# Altium footprint library SchedaLed.PcbLib: 10 footprints
Each footprint in its own frame and in the unit in brackets; x right, y up, seen from the top. Pads: shape width x height; smd on the part's side, far side on the other; paste and mask are expansions set on the pad; w line width, h text height; cw(c..) or ccw(c..) is an arc to the next point about the centre after c.
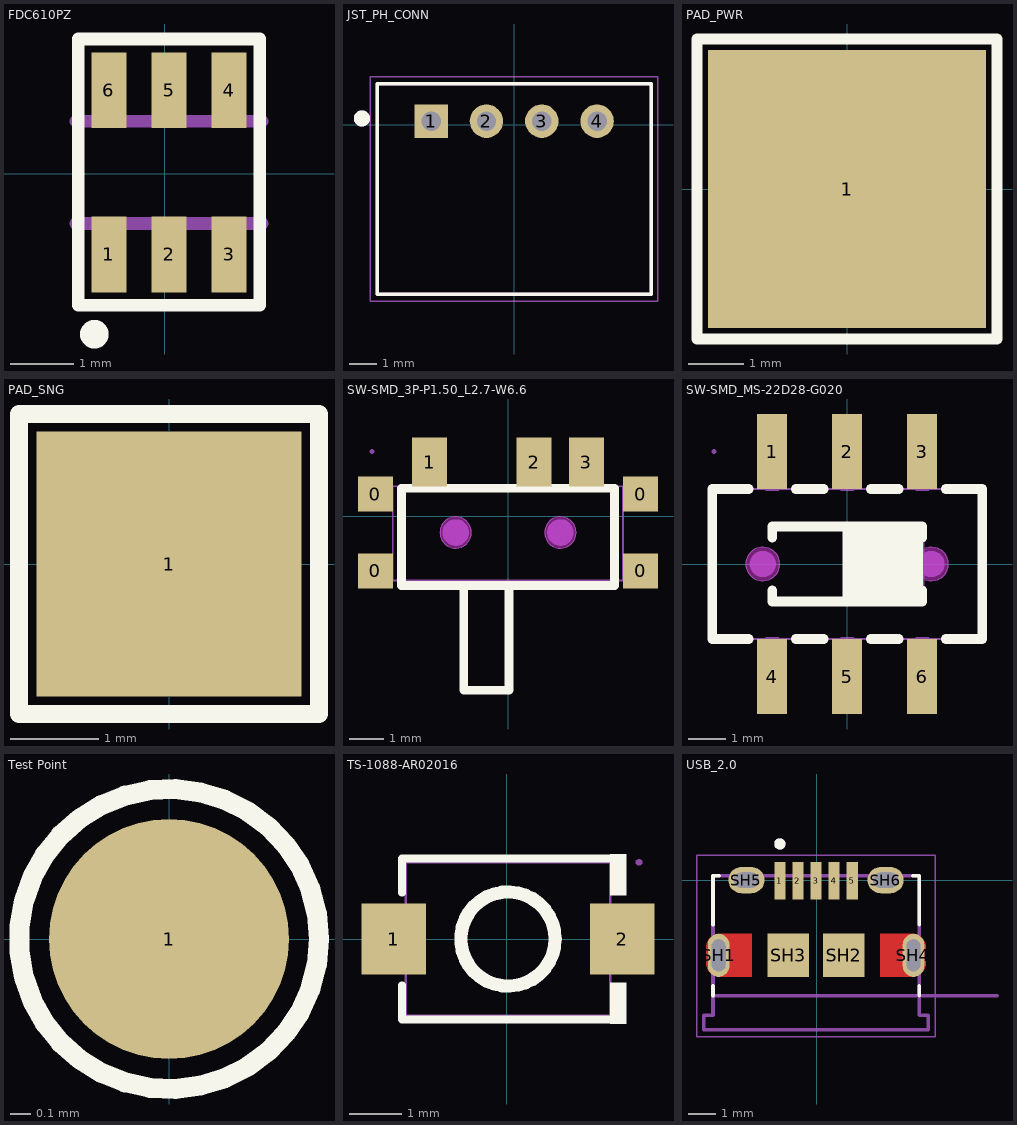
[diagram p0: the footprints below, top view; thin cyan lines are the x and y axes]

## FDC610PZ [mm]
pads (6):
  rect 0.55x1.2 smd: 1(-0.886,-1.278) 2(0.064,-1.278) 3(1.014,-1.278) 4(1.014,1.322) 5(0.064,1.322) 6(-0.886,1.322)
Top Overlay:
  circle w0.3: c-1.118,-2.54 r0.076
  lines w0.2: -1.372,-2.083 1.5,-2.083 1.5,2.134 -1.372,2.134 -1.372,-2.083
Mechanical 13:
  region: -0.636,-1.478 -1.136,-1.478 -1.136,-0.828 -0.636,-0.828
  region: 0.314,-1.478 -0.186,-1.478 -0.186,-0.828 0.314,-0.828
  region: 1.264,-1.481 0.765,-1.481 0.765,-0.828 1.264,-0.828
  region: 1.264,0.873 0.765,0.873 0.765,1.522 1.264,1.522
  region: 0.314,0.874 -0.186,0.874 -0.186,1.522 0.314,1.522
  region: -0.636,0.872 -1.137,0.872 -1.137,1.522 -0.636,1.522
  lines w0.203: -1.408,-0.788 1.536,-0.788 ; -1.408,0.832 1.536,0.832
3D body "step_temp.STEP": height 1.1, standoff 0, extent -1.411,-1.353 1.539,1.397

## JST_PH_CONN [mm]
pads (4):
  rect 1.208x1.208 hole 0.7: 1(-3,0.127)
  round 1.208 hole 0.7: 2(-1,0.127) 3(1,0.127) 4(3,0.127)
Top Overlay:
  circle w0.3: c-5.5,0.227 r0.141
  lines w0.127: -4.95,-6.123 4.95,-6.123 4.95,1.477 -4.95,1.477 -4.95,-6.123
Mechanical 13:
  circle w0.3: c-5.5,0.227 r0.141
  lines w0.127: -4.95,-6.123 -4.95,1.477 4.95,1.477 4.95,-6.123 -4.95,-6.123
Mechanical 15:
  lines w0.05: -5.2,-6.373 -5.2,1.727 5.2,1.727 5.2,-6.373 -5.2,-6.373
3D body "S4B-PH-K-S(LF)(SN)--3DModel-STEP-56544.STEP": height 4.8, standoff -3.38, extent -4.95,-6.2 4.95,1.4

## PAD_PWR [mm]
pads (1):
  rect 5x5 smd: 1(0,0)
Top Overlay:
  lines w0.2: -2.7,-2.7 2.7,-2.7 2.7,2.7 -2.7,2.7 -2.7,-2.7
3D body: height 0.03, standoff 0.03, extent -2.5,-2.5 2.5,2.5

## PAD_SNG [mm]
pads (1):
  rect 3x3 smd: 1(0,0)
Top Overlay:
  lines w0.2: -1.7,-1.7 1.7,-1.7 1.7,1.7 -1.7,1.7 -1.7,-1.7
3D body: height 0.03, standoff 0.03, extent -1.5,-1.5 1.5,1.5

## PCBComponent_1 [mm]

## SW-SMD_3P-P1.50_L2.7-W6.6 [mm]
pads (7):
  rect 1x1 smd paste+0 mask+0.051: 0(-3.8,-1.559) 0(-3.8,0.641) 0(3.8,-1.559) 0(3.8,0.641)
  rect 1x1.4 smd paste+0 mask+0.051: 1(-2.25,1.559) 2(0.75,1.559) 3(2.25,1.559)
Top Overlay:
  lines w0.254: -3.048,-1.983 3.048,-1.983 3.048,0.811 -3.048,0.811 -3.048,-1.983 ; -1.27,-4.983 -1.27,-1.983 0.03,-1.983 0.03,-4.983 -1.27,-4.983
Keep-Out Layer:
  board cut-out: 1.95,-0.459 1.949,-0.37 1.88,-0.206 1.753,-0.081 1.589,-0.014 1.411,-0.014 1.247,-0.081 1.12,-0.206 1.051,-0.37 1.05,-0.459 1.051,-0.548 1.12,-0.712 1.247,-0.837 1.411,-0.904 1.589,-0.904 1.753,-0.837 1.88,-0.712 1.949,-0.548
  board cut-out: -1.05,-0.459 -1.051,-0.37 -1.12,-0.206 -1.247,-0.081 -1.411,-0.014 -1.589,-0.014 -1.753,-0.081 -1.88,-0.206 -1.949,-0.37 -1.95,-0.459 -1.949,-0.548 -1.88,-0.712 -1.753,-0.837 -1.589,-0.904 -1.411,-0.904 -1.247,-0.837 -1.12,-0.712 -1.051,-0.548
Mechanical 1:
  circle w0.005: c1.5,-0.459 r0.45
  circle w0.005: c-1.5,-0.459 r0.45
Mechanical 6:
  circle w0.38: c-1.5,-0.459 r0.19
  circle w0.38: c1.5,-0.459 r0.19
Mechanical 15:
  region: 3.297,-1.359 3.897,-1.359 3.897,-1.759 3.297,-1.759
  region: 3.297,0.841 3.897,0.841 3.897,0.441 3.297,0.441
  region: -3.897,-1.359 -3.297,-1.359 -3.297,-1.759 -3.897,-1.759
  region: -3.897,0.841 -3.297,0.841 -3.297,0.441 -3.897,0.441
  region: 2.05,1.863 2.45,1.863 2.45,0.863 2.05,0.863
  region: 0.55,1.863 0.95,1.863 0.95,0.863 0.55,0.863
  region: -2.45,1.863 -2.05,1.863 -2.05,0.863 -2.45,0.863
  region: -3.837,1.863 -3.837,1.888 -3.872,1.923 -3.922,1.924 -3.957,1.888 -3.957,1.864 -3.957,1.839 -3.922,1.804 -3.872,1.803 -3.837,1.839
  lines w0.051: -3.302,-1.834 3.298,-1.834 3.298,0.866 -3.302,0.866 -3.302,-1.834

## SW-SMD_MS-22D28-G020 [mm]
pads (6):
  rect 0.8x2 smd paste+0 mask+0.051: 1(-2,3) 2(0,3) 3(2,3) 4(-2,-3) 5(0,-3) 6(2,-3)
Top Overlay:
  region: 0.019,0.991 2.019,0.991 2.019,-1.009 0.019,-1.009
  lines w0.254: -2.631,-2 -3.6,-2 -3.6,2 -2.631,2 ; -2,-0.7 -2,-1 2,-1 2,-0.7 ; -2,0.7 -2,1 2,1 2,0.7 ; -1.369,-2 -0.631,-2 ; -1.369,2 -0.631,2 ; 0,-1 0,1 ; 0.631,-2 1.369,-2 ; 0.631,2 1.369,2 ; 2.631,-2 3.6,-2 3.6,2 2.631,2
Keep-Out Layer:
  board cut-out: -1.8,0 -1.8,0.09 -1.868,0.255 -1.995,0.382 -2.16,0.45 -2.34,0.45 -2.505,0.382 -2.632,0.255 -2.7,0.09 -2.7,0 -2.7,-0.09 -2.632,-0.255 -2.505,-0.382 -2.34,-0.45 -2.16,-0.45 -1.995,-0.382 -1.868,-0.255 -1.8,-0.09 -1.8,0
  board cut-out: 2.7,0 2.7,0.09 2.631,0.255 2.505,0.382 2.339,0.45 2.16,0.45 1.995,0.382 1.868,0.255 1.8,0.09 1.8,0 1.8,-0.09 1.868,-0.255 1.995,-0.382 2.16,-0.45 2.339,-0.45 2.505,-0.382 2.631,-0.255 2.7,-0.09 2.7,0
Mechanical 1:
  circle w0.005: c-2.25,0 r0.45
  circle w0.005: c2.25,0 r0.45
Mechanical 6:
  circle w0.35: c-2.25,0 r0.175
  circle w0.35: c2.25,0 r0.175
  region: 0.051,1 2.051,1 2.051,-1 0.051,-1
Mechanical 15:
  region: -3.49,3 -3.49,3.025 -3.525,3.06 -3.575,3.06 -3.61,3.025 -3.61,3 -3.61,2.975 -3.575,2.94 -3.525,2.94 -3.49,2.975 -3.49,3
  region: -1.825,3 -1.825,1.95 -2.175,1.95 -2.175,3
  region: 0.175,3 0.175,1.95 -0.175,1.95 -0.175,3
  region: 2.175,3 2.175,1.95 1.825,1.95 1.825,3
  region: 2.175,-1.95 2.175,-3 1.825,-3 1.825,-1.95
  region: 0.175,-1.95 0.175,-3 -0.175,-3 -0.175,-1.95
  region: -1.825,-1.95 -1.825,-3 -2.175,-3 -2.175,-1.95
  lines w0.051: -3.55,-2 -3.55,2 3.55,2 3.55,-2 -3.55,-2

## Test Point [mm] "Test Point"
pads (1):
  round 1.2 smd paste-0.6: 1(0,0)
Top Overlay:
  circle w0.1: c0,0 r0.75
3D body: height 0.03, standoff 0, extent -0.6,-0.6 0.6,0.6

## TS-1088-AR02016 [mm]
pads (2):
  rect 1.23x1.36 smd: 1(-2.159,0) 2(2.211,0)
Top Overlay:
  circle w0.254: c0.026,0 r0.9
  region: 1.976,-1.617 1.976,-0.832 2.281,-0.832 2.281,-1.617
  region: 1.976,1.617 1.976,0.832 2.281,0.832 2.281,1.617
  lines w0.152: -2,-0.883 -2,-1.541 2.052,-1.541 ; -2,0.883 -2,1.541 2.052,1.541
Mechanical 15:
  region: 2.586,1.465 2.586,1.49 2.551,1.525 2.501,1.525 2.466,1.49 2.466,1.465 2.466,1.44 2.501,1.405 2.551,1.405 2.586,1.44
  region: 2.526,0.65 2.526,-0.65 1.626,-0.65 1.626,0.65
  region: -2.474,0.65 -2.474,-0.65 -1.574,-0.65 -1.574,0.65
  lines w0.051: -1.924,-1.465 1.976,-1.465 1.976,1.465 -1.924,1.465 -1.924,-1.465

## USB_2.0 [mm]
pads (11):
  rect 0.4x1.35 smd: 1(-1.325,-0.017) 2(-0.675,-0.017) 3(-0.025,-0.017) 4(0.625,-0.017) 5(1.275,-0.017)
  oval 0.775x1.55 hole 0.5 slot 1.15 at 90 deg mask+0: SH1(-3.525,-2.692) SH4(3.475,-2.692)
  rect 1.5x1.55 smd: SH2(0.975,-2.692) SH3(-1.025,-2.692)
  oval 1.3x0.95 hole 0.55 slot 0.9 at 0 deg: SH5(-2.525,0.008) SH6(2.475,0.008)
Top Layer:
  region: -2.325,-3.467 -3.47,-3.467 -3.496,-3.466 -3.522,-3.464 -3.548,-3.461 -3.574,-3.456 -3.599,-3.45 -3.625,-3.443 -3.649,-3.434 -3.673,-3.424 -3.697,-3.413 -3.72,-3.4 -3.742,-3.386 -3.764,-3.372 -3.785,-3.356 -3.805,-3.339 -3.824,-3.321 -3.842,-3.302 -3.859,-3.282 -3.875,-3.261 -3.889,-3.239 -3.903,-3.217 -3.916,-3.194 -3.927,-3.17 -3.937,-3.146 -3.946,-3.122 -3.953,-3.096 -3.959,-3.071 -3.964,-3.045 -3.967,-3.019 -3.969,-2.993 -3.97,-2.967 -3.97,-2.417 -3.969,-2.391 -3.967,-2.365 -3.964,-2.339 -3.959,-2.313 -3.953,-2.288 -3.946,-2.262 -3.937,-2.238 -3.927,-2.214 -3.916,-2.19 -3.903,-2.167 -3.889,-2.145 -3.875,-2.123 -3.859,-2.102 -3.842,-2.082 -3.824,-2.063 -3.805,-2.045 -3.785,-2.028 -3.764,-2.012 -3.742,-1.998 -3.72,-1.984 -3.697,-1.971 -3.673,-1.96 -3.649,-1.95 -3.625,-1.941 -3.599,-1.934 -3.574,-1.928 -3.548,-1.923 -3.522,-1.92 -3.496,-1.918 -3.47,-1.917 -2.325,-1.917
  region: 3.446,-1.918 3.472,-1.92 3.498,-1.923 3.524,-1.928 3.549,-1.934 3.575,-1.941 3.599,-1.95 3.623,-1.96 3.647,-1.971 3.67,-1.984 3.692,-1.998 3.714,-2.012 3.735,-2.028 3.755,-2.045 3.774,-2.063 3.792,-2.082 3.809,-2.102 3.825,-2.123 3.839,-2.145 3.853,-2.167 3.866,-2.19 3.877,-2.214 3.887,-2.238 3.896,-2.262 3.903,-2.288 3.909,-2.313 3.914,-2.339 3.917,-2.365 3.919,-2.391 3.92,-2.417 3.92,-2.967 3.919,-2.993 3.917,-3.019 3.914,-3.045 3.909,-3.071 3.903,-3.096 3.896,-3.122 3.887,-3.146 3.877,-3.17 3.866,-3.194 3.853,-3.217 3.839,-3.239 3.825,-3.261 3.809,-3.282 3.792,-3.302 3.774,-3.321 3.755,-3.339 3.735,-3.356 3.714,-3.372 3.692,-3.386 3.67,-3.4 3.647,-3.413 3.623,-3.424 3.599,-3.434 3.575,-3.443 3.549,-3.45 3.524,-3.456 3.498,-3.461 3.472,-3.464 3.446,-3.466 3.42,-3.467 2.275,-3.467 2.275,-1.917 3.42,-1.917
Top Overlay:
  circle w0.2: c-1.325,1.308 r0.1
  lines w0.127: -3.725,-4.142 -3.725,-3.792 ; -3.725,-1.592 -3.725,0.158 -3.495,0.158 ; 3.445,0.158 3.675,0.158 3.675,-1.592 ; 3.675,-4.142 3.675,-3.792
Top Paste:
  region: -2.325,-3.467 -3.47,-3.467 -3.496,-3.466 -3.522,-3.464 -3.548,-3.461 -3.574,-3.456 -3.599,-3.45 -3.625,-3.443 -3.649,-3.434 -3.673,-3.424 -3.697,-3.413 -3.72,-3.4 -3.742,-3.386 -3.764,-3.372 -3.785,-3.356 -3.805,-3.339 -3.824,-3.321 -3.842,-3.302 -3.859,-3.282 -3.875,-3.261 -3.889,-3.239 -3.903,-3.217 -3.916,-3.194 -3.927,-3.17 -3.937,-3.146 -3.946,-3.122 -3.953,-3.096 -3.959,-3.071 -3.964,-3.045 -3.967,-3.019 -3.969,-2.993 -3.97,-2.967 -3.97,-2.417 -3.969,-2.391 -3.967,-2.365 -3.964,-2.339 -3.959,-2.313 -3.953,-2.288 -3.946,-2.262 -3.937,-2.238 -3.927,-2.214 -3.916,-2.19 -3.903,-2.167 -3.889,-2.145 -3.875,-2.123 -3.859,-2.102 -3.842,-2.082 -3.824,-2.063 -3.805,-2.045 -3.785,-2.028 -3.764,-2.012 -3.742,-1.998 -3.72,-1.984 -3.697,-1.971 -3.673,-1.96 -3.649,-1.95 -3.625,-1.941 -3.599,-1.934 -3.574,-1.928 -3.548,-1.923 -3.522,-1.92 -3.496,-1.918 -3.47,-1.917 -2.325,-1.917
  region: 3.446,-1.918 3.472,-1.92 3.498,-1.923 3.524,-1.928 3.549,-1.934 3.575,-1.941 3.599,-1.95 3.623,-1.96 3.647,-1.971 3.67,-1.984 3.692,-1.998 3.714,-2.012 3.735,-2.028 3.755,-2.045 3.774,-2.063 3.792,-2.082 3.809,-2.102 3.825,-2.123 3.839,-2.145 3.853,-2.167 3.866,-2.19 3.877,-2.214 3.887,-2.238 3.896,-2.262 3.903,-2.288 3.909,-2.313 3.914,-2.339 3.917,-2.365 3.919,-2.391 3.92,-2.417 3.92,-2.967 3.919,-2.993 3.917,-3.019 3.914,-3.045 3.909,-3.071 3.903,-3.096 3.896,-3.122 3.887,-3.146 3.877,-3.17 3.866,-3.194 3.853,-3.217 3.839,-3.239 3.825,-3.261 3.809,-3.282 3.792,-3.302 3.774,-3.321 3.755,-3.339 3.735,-3.356 3.714,-3.372 3.692,-3.386 3.67,-3.4 3.647,-3.413 3.623,-3.424 3.599,-3.434 3.575,-3.443 3.549,-3.45 3.524,-3.456 3.498,-3.461 3.472,-3.464 3.446,-3.466 3.42,-3.467 2.275,-3.467 2.275,-1.917 3.42,-1.917
Top Solder:
  region: -2.225,-3.567 -3.47,-3.567 -3.501,-3.566 -3.533,-3.564 -3.564,-3.56 -3.595,-3.554 -3.625,-3.547 -3.655,-3.538 -3.685,-3.527 -3.714,-3.515 -3.742,-3.502 -3.77,-3.487 -3.797,-3.47 -3.823,-3.452 -3.848,-3.433 -3.871,-3.413 -3.894,-3.391 -3.916,-3.368 -3.936,-3.345 -3.955,-3.32 -3.973,-3.294 -3.99,-3.267 -4.005,-3.239 -4.018,-3.211 -4.03,-3.182 -4.041,-3.152 -4.05,-3.122 -4.057,-3.092 -4.063,-3.061 -4.067,-3.03 -4.069,-2.998 -4.07,-2.967 -4.07,-2.417 -4.069,-2.386 -4.067,-2.354 -4.063,-2.323 -4.057,-2.292 -4.05,-2.262 -4.041,-2.232 -4.03,-2.202 -4.018,-2.173 -4.005,-2.145 -3.99,-2.117 -3.973,-2.09 -3.955,-2.064 -3.936,-2.039 -3.916,-2.016 -3.894,-1.993 -3.871,-1.971 -3.848,-1.951 -3.823,-1.932 -3.797,-1.914 -3.77,-1.897 -3.742,-1.882 -3.714,-1.869 -3.685,-1.857 -3.655,-1.846 -3.625,-1.837 -3.595,-1.83 -3.564,-1.824 -3.533,-1.82 -3.501,-1.818 -3.47,-1.817 -2.225,-1.817
  region: 3.451,-1.818 3.483,-1.82 3.514,-1.824 3.545,-1.83 3.575,-1.837 3.605,-1.846 3.635,-1.857 3.664,-1.869 3.692,-1.882 3.72,-1.897 3.747,-1.914 3.773,-1.932 3.798,-1.951 3.821,-1.971 3.844,-1.993 3.866,-2.016 3.886,-2.039 3.905,-2.064 3.923,-2.09 3.94,-2.117 3.955,-2.145 3.968,-2.173 3.98,-2.202 3.991,-2.232 4,-2.262 4.007,-2.292 4.013,-2.323 4.017,-2.354 4.019,-2.386 4.02,-2.417 4.02,-2.967 4.019,-2.998 4.017,-3.03 4.013,-3.061 4.007,-3.092 4,-3.122 3.991,-3.152 3.98,-3.182 3.968,-3.211 3.955,-3.239 3.94,-3.267 3.923,-3.294 3.905,-3.32 3.886,-3.345 3.866,-3.368 3.844,-3.391 3.821,-3.413 3.798,-3.433 3.773,-3.452 3.747,-3.47 3.72,-3.487 3.692,-3.502 3.664,-3.515 3.635,-3.527 3.605,-3.538 3.575,-3.547 3.545,-3.554 3.514,-3.56 3.483,-3.564 3.451,-3.566 3.42,-3.567 2.175,-3.567 2.175,-1.817 3.42,-1.817
Bottom Solder:
  drawing of 2 lines, arcs and shapes, not listed
Mechanical 13:
  circle w0.2: c-1.325,1.308 r0.1
  lines w0.127: 6.475,-4.142 -3.725,-4.142 ; -3.725,-4.142 -3.725,-4.842 -4.05,-4.842 -4.05,-5.372 4,-5.372 4,-4.842 3.675,-4.842 3.675,0.158 -3.725,0.158 -3.725,-4.142
  text "PCB EDGE" at 4.225,-3.942 h0.81
Mechanical 15:
  lines w0.05: -4.3,-5.622 -4.3,0.908 4.25,0.908 4.25,-5.622 -4.3,-5.622
3D body "step_temp.STEP": height 2.67, standoff -0.6, extent -4.05,-5.372 4,0.158